# Altium footprint library 电解模块主控板_V1.1_ZM_20210918.PcbLib: 42 footprints (part 2 of 3)
Each footprint in its own frame and in the unit in brackets; x right, y up, seen from the top. Pads: shape width x height; smd on the part's side, far side on the other; paste and mask are expansions set on the pad; w line width, h text height; cw(c..) or ccw(c..) is an arc to the next point about the centre after c.
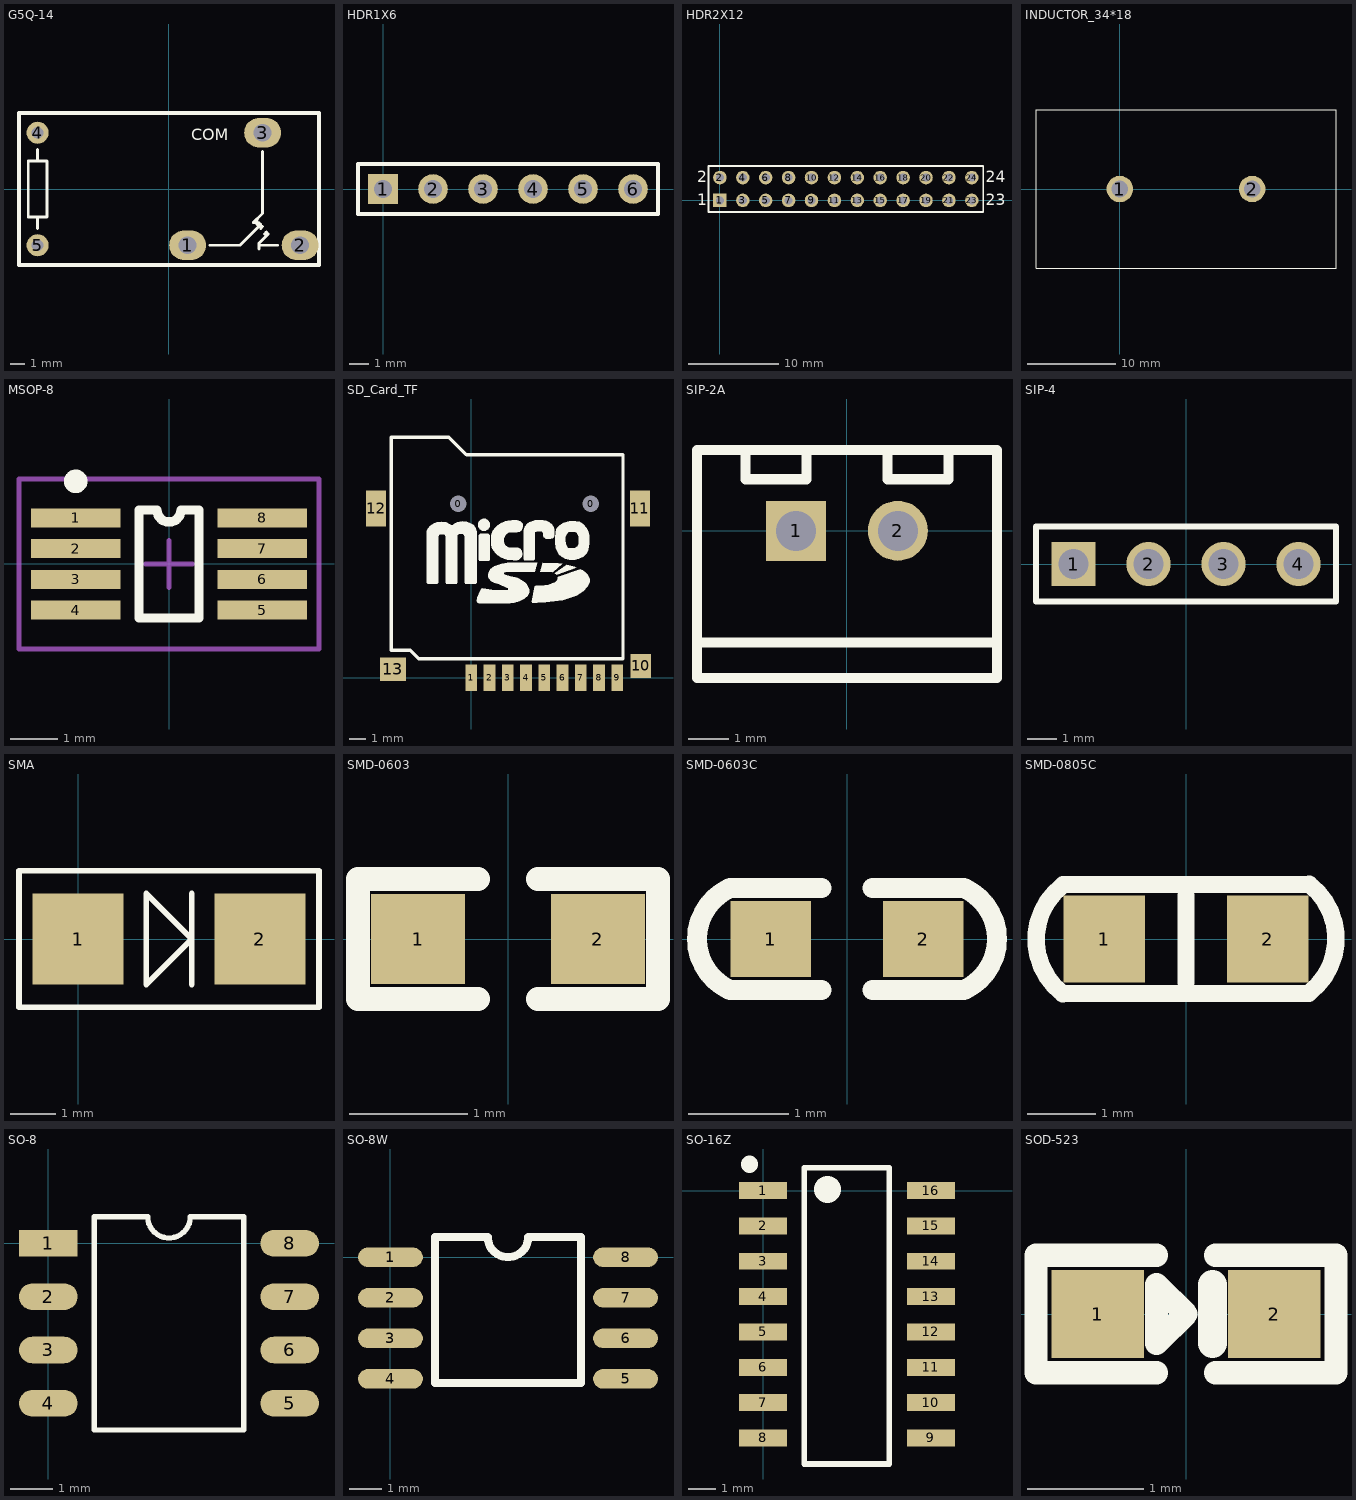
[diagram p1: the footprints below, top view; thin cyan lines are the x and y axes]

## G5Q-14 [mm]
pads (5):
  oval 2.5x2 hole 1.2: 1(1.27,-3.81) 2(8.89,-3.81) 3(6.35,3.81)
  round 1.5 hole 0.8: 4(-8.89,3.81) 5(-8.89,-3.81)
Top Overlay:
  lines w0.2: -8.89,-2.667 -8.89,-1.905 ; -8.89,1.905 -8.89,2.667 ; 4.318,-3.81 2.794,-3.81 4.826,-3.81 6.223,-2.413 ; 5.715,-2.286 6.35,-1.651 6.35,2.54 ; 5.842,-2.286 5.969,-2.159 ; 5.969,-2.413 6.096,-2.286 ; 6.096,-4.064 6.096,-3.683 6.731,-3.048 ; 6.096,-3.81 7.366,-3.81 ; 6.223,-2.667 6.35,-2.54 ; 6.477,-3.048 6.604,-2.921 ; -9.525,-1.905 -8.255,-1.905 -8.255,1.905 -9.525,1.905 -9.525,-1.905
  lines w0.254: 10.15,-5.15 -10.15,-5.15 -10.15,5.15 10.15,5.15 ; 10.17,-5.15 10.17,5.15
  text "COM" at 1.524,3.302 h0.8
3D body: height 15.91, standoff -4, extent -9.9,-4.947 9.9,4.953

## HDR1X6 [mm] "Connector; Header; 6 Position"
pads (6):
  rect 1.5x1.5 hole 0.9: 1(0,0)
  round 1.5 hole 0.9: 2(2.54,0) 3(5.08,0) 4(7.62,0) 5(10.16,0) 6(12.7,0)
Top Overlay:
  lines w0.2: -1.27,-1.27 13.97,-1.27 13.97,1.27 -1.27,1.27 -1.27,-1.27

## HDR2X12 [mm] "Connector; Header; 12x2 Position"
pads (24):
  rect 1.5x1.5 hole 0.9: 1(0,0)
  round 1.5 hole 0.9: 2(0,2.54) 3(2.54,0) 4(2.54,2.54) 5(5.08,0) 6(5.08,2.54) 7(7.62,0) 8(7.62,2.54) 9(10.16,0) 10(10.16,2.54) 11(12.7,0) 12(12.7,2.54) 13(15.24,0) 14(15.24,2.54) 15(17.78,0) 16(17.78,2.54) 17(20.32,0) 18(20.32,2.54) 19(22.86,0) 20(22.86,2.54) 21(25.4,0) 22(25.4,2.54) 23(27.94,0) 24(27.94,2.54)
Top Overlay:
  lines w0.2: -1.27,-1.27 29.21,-1.27 29.21,3.81 -1.27,3.81 -1.27,-1.27
  text "24" at 29.464,2.032 h1.27
  text "23" at 29.464,-0.508 h1.27
  text "2" at -2.54,2.032 h1.27
  text "1" at -2.54,-0.508 h1.27

## INDUCTOR_34*18 [mm]
pads (2):
  round 3 hole 1.9: 1(0,0) 2(15,0)
Top Overlay:
  lines w0.127: -9.5,-9 24.5,-9 24.5,9 -9.5,9 -9.5,-9

## MSOP-8 [mm]
pads (8):
  rect 1.9x0.4 smd: 1(-1.975,0.975) 2(-1.975,0.325) 3(-1.975,-0.325) 4(-1.975,-0.975) 5(1.975,-0.975) 6(1.975,-0.325) 7(1.975,0.325) 8(1.975,0.975)
Top Overlay:
  circle w0.25: c-1.975,1.75 r0.125
  lines w0.2: -0.635,-1.143 -0.635,1.143 -0.254,1.143 ccw(c0,1.143) 0.254,1.143 0.635,1.143 0.635,-1.143 -0.635,-1.143
Mechanical 15:
  lines w0.1: -0.5,0 0.5,0 ; 0,-0.5 0,0.5 ; -3.175,-1.8 -3.175,1.8 3.175,1.8 3.175,-1.8 -3.175,-1.8
3D body: height 1.15, standoff 0, extent -2.45,-1.5 2.45,1.5

## SD_Card_TF [mil]
pads (15):
  round 30 hole 39.37 mask+0: 0(-31.5,413.39) 0(283.46,413.39)
  rect 28x62 smd: 1(0,0) 2(43.31,0) 3(86.61,0) 4(129.92,0) 5(173.23,0) 6(216.54,0) 7(259.84,0) 8(303.15,0) 9(346.46,0)
  rect 48x56 smd: 10(402,28)
  rect 48x86 smd: 11(400,402) 12(-226,402)
  rect 62x56 smd: 13(-186,20)
Top Overlay:
  drawing of 18 lines, arcs and shapes, not listed

## SIP-2A [mm]
pads (2):
  rect 1.5x1.5 hole 1: 1(-1.27,0)
  round 1.5 hole 1: 2(1.27,0)
Top Overlay:
  lines w0.254: -3.75,-3.681 -3.75,2.019 3.75,2.019 3.75,-3.681 -3.7,-3.681 ; -3.75,-2.794 3.75,-2.794 ; -2.54,1.924 -2.54,1.289 -1.016,1.289 -1.016,1.924 ; 1.016,1.924 1.016,1.289 2.54,1.289 2.54,1.924
3D body: height 7.5, standoff -2.9, extent -3.7,-3.814 3.7,2.286

## SIP-4 [mm]
pads (4):
  rect 1.5x1.5 hole 1: 1(-3.81,0)
  round 1.5 hole 1: 2(-1.27,0) 3(1.27,0) 4(3.81,0)
Top Overlay:
  lines w0.2: -5.08,-1.27 -5.08,1.27 5.08,1.27 5.08,-1.27 -5.08,-1.27

## SMA [mm]
pads (2):
  rect 2x2 smd: 1(0,0) 2(4,0)
Top Overlay:
  lines w0.127: 2.5,-1 2.5,1 ; -1.3,-1.5 5.3,-1.5 5.3,1.5 -1.3,1.5 -1.3,-1.5 ; 1.5,-1 2.5,0 1.5,1 1.5,-1

## SMD-0603 [mil]
pads (2):
  rect 31.5x30 smd: 1(-30,0) 2(30,0)
Top Overlay:
  lines w7.87: -10,-20 -50,-20 -50,20 -10,20 ; 10,-20 50,-20 50,20 10,20
3D body: height 17.72, standoff 0, extent -31.49,-15.74 31.5,15.75

## SMD-0603C [mil]
pads (2):
  rect 31.5x30 smd: 1(-30,0) 2(30,0)
Top Overlay:
  lines w7.87: -46.3,-19.94 cw(c-37,0) -46.3,19.94 ; -46,-20 -10,-20 ; -46,20 -10,20 ; 10,-20 46,-20 ; 10,20 46,20 ; 46.3,-19.94 ccw(c37,0) 46.3,19.94
3D body: height -15.75, standoff -39.37, extent -31.49,-15.74 31.5,15.75

## SMD-0805C [mm]
pads (2):
  rect 1.2x1.27 smd: 1(-1.2,0) 2(1.2,0)
Top Overlay:
  lines w0.254: -1.808,-0.801 cw(c-1.2,-0.007) -1.801,0.792 ; -1.8,-0.8 1.8,-0.8 ; -1.8,0.8 1.8,0.8 ; 0,-0.635 0,0.635 ; 1.801,-0.792 ccw(c1.2,0.007) 1.808,0.801
3D body: height 0.93, standoff -0.01, extent -1.425,-0.667 1.575,0.733

## SO-8 [mil]
pads (8):
  rect 55x25 smd: 1(0,0)
  oval 55x25 smd: 2(0,-50) 3(0,-100) 4(0,-150) 5(226.38,-150) 6(226.38,-100) 7(226.38,-50) 8(226.38,0)
Top Overlay:
  lines w5: 43.19,-175 183.19,-175 183.19,25 133.19,25 cw(c113.19,25) 93.19,25 43.19,25 43.19,-175

## SO-8W [mil]
height 59.06
pads (8):
  oval 80x24 smd: 1(0,0) 2(0,-50) 3(0,-100) 4(0,-150) 5(290,-150) 6(290,-100) 7(290,-50) 8(290,0)
Top Overlay:
  lines w10: 55,-155 55,25 120,25 ccw(c145,25) 170,25 235,25 235,-155 55,-155

## SO-16Z [mil]
pads (16):
  rect 68x24 smd: 1(0,0) 2(0,-50) 3(0,-100) 4(0,-150) 5(0,-200) 6(0,-250) 7(0,-300) 8(0,-350) 9(237.11,-350) 10(237.11,-300) 11(237.11,-250) 12(237.11,-200) 13(237.11,-150) 14(237.11,-100) 15(237.11,-50) 16(237.11,0)
Top Overlay:
  lines w8: 58.07,-386.81 178.35,-386.81 178.35,32.28 58.07,32.28 58.07,-386.81
  lines w24: -19.49,37.2 -19.49,37.6
  lines w38: 91.04,1.48 91.04,1.87

## SOD-523 [mil]
pads (2):
  rect 31.5x30 smd: 1(-30,0) 2(30,0)
Top Overlay:
  lines w7.87: -51,-20 -51,20 ; -50,-20 -10,-20 ; -50,20 -10,20 ; 10,-20 50,-20 ; 10,20 50,20 ; 51,-20 51,20 ; -10,-10 -10,10 0,0 -10,-10
  lines w10: 9,-10 9,10
3D body: height 25.59, standoff 0, extent -31.49,-15.75 31.5,15.75